# EAGLE library part SSW-104-02-S-T (library con-samtec)
THROUGH-HOLE .025" SQ POST SOCKET Source: Samtec SSW.pdf
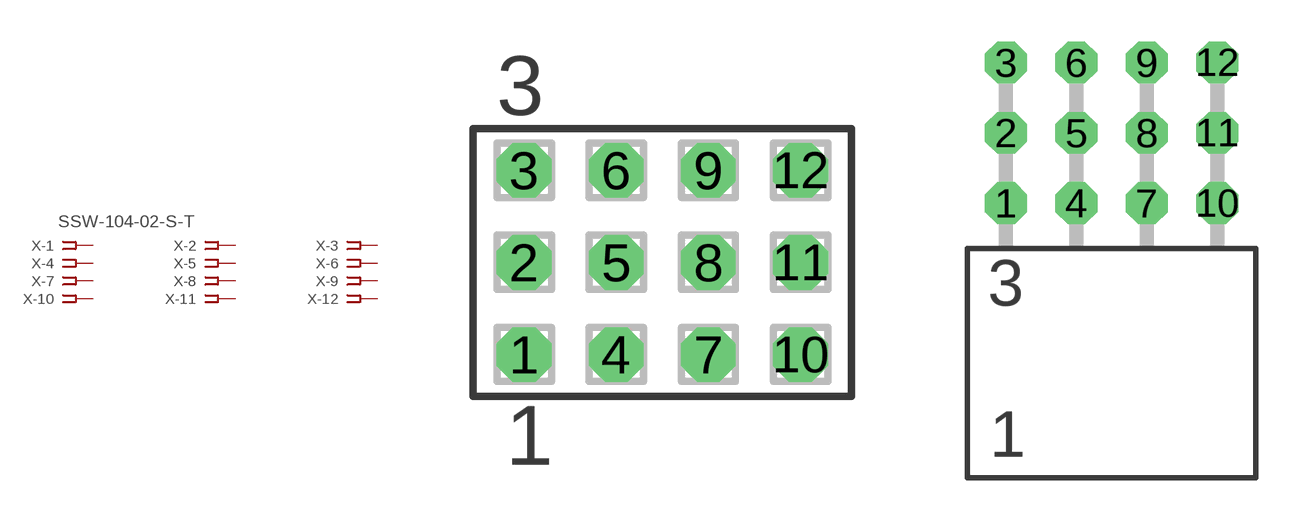
[diagram p52: symbol with the pads of SSW-104-02-S-T; footprints SSW-104-02-S-T, SSW-104-02-S-T-RA]

Designator prefix X; gates -1=FPINV -2=FPIN -3=FPIN -4=FPIN -5=FPIN -6=FPIN -7=FPIN -8=FPIN -9=FPIN -10=FPIN -11=FPIN -12=FPIN

## SSW-104-02-S-T (MPN: SSW-104-02-S-T; OC_FARNELL: unknown; OC_NEWARK: 82P2481)  [SSW-104-02-S-T]
1  -1:1  pas
2  -2:1  pas
3  -3:1  pas
4  -4:1  pas
5  -5:1  pas
6  -6:1  pas
7  -7:1  pas
8  -8:1  pas
9  -9:1  pas
10  -10:1  pas
11  -11:1  pas
12  -12:1  pas

## SSW-104-02-S-TRA (MPN: SSW-104-02-S-T-RA; OC_FARNELL: unknown; OC_NEWARK: 82P2482)  [SSW-104-02-S-T-RA]
Pads as for SSW-104-02-S-T

## Footprint SSW-104-02-S-T (pad centres in mm)
THROUGH-HOLE .025" SQ POST SOCKET Source: Samtec SSW.pdf
drill 1 pad 1.5 octagon: 1 -3.81,-2.54; 2 -3.81,0; 3 -3.81,2.54; 4 -1.27,-2.54; 5 -1.27,0; 6 -1.27,2.54; 7 1.27,-2.54; 8 1.27,0; 9 1.27,2.54; 10 3.81,-2.54; 11 3.81,0; 12 3.81,2.54

## Footprint SSW-104-02-S-T-RA (pad centres in mm)
THROUGH-HOLE .025" SQ POST SOCKET Source: Samtec SSW.pdf
drill 1 pad 1.5 octagon: 1 -3.81,1.524; 2 -3.81,4.064; 3 -3.81,6.604; 4 -1.27,1.524; 5 -1.27,4.064; 6 -1.27,6.604; 7 1.27,1.524; 8 1.27,4.064; 9 1.27,6.604; 10 3.81,1.524; 11 3.81,4.064; 12 3.81,6.604